# Altium schematic symbol library 2-215460-0.SchLib: 1 symbol
Pins are listed as number, name and electrical type; pins without a type are passive.

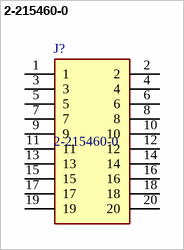
[diagram p0: symbol 2-215460-0]

## 2-215460-0
designator J?
Body Features: Primary Product Color Red; Manufacturer_Name: TE Connectivity; Geometry.Height: 6mm; Mouser Part Number: 571-2-215460-0; Mouser Price/Stock: https://www.mouser.co.uk/ProductDetail/TE-Connectivity/2-215460-0?qs=XAKIUOoRPe4AWScBmS9%2FyA%3D%3D; Manufacturer_Part_Number: 2-215460-0; Datasheet Link: https://www.te.com/commerce/DocumentDelivery/DDEController?Action=srchrtrv&DocNm=4-1773457-1_050_Micro_MaTch&DocType=Data%20Sheet&DocLang=English&PartCntxt=2-215460-0&DocFormat=pdf
footprint 22154600
pins: 1, 2, 3, 4, 5, 6, 7, 8, 9, 10, 11, 12, 13, 14, 15, 16, 17, 18, 19, 20